# Altium integrated library Analog Devices Operational Amplifiers.IntLib: 2102 symbols (part 55 of 70)
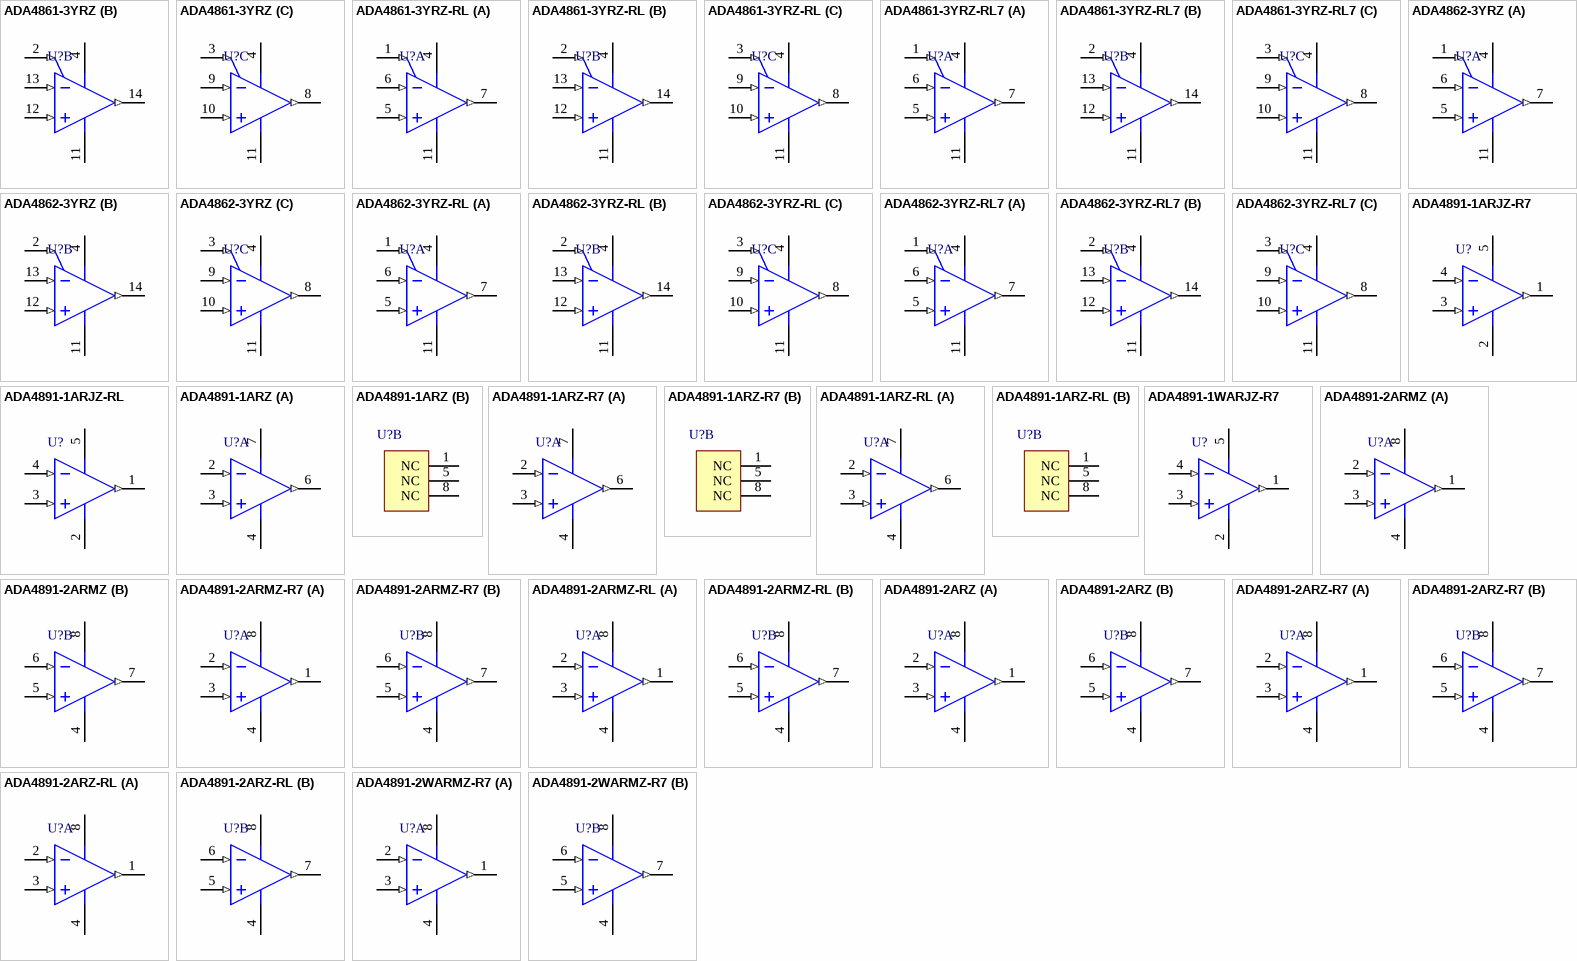
[diagram p168: symbols ADA4861-3YRZ to ADA4891-2WARMZ-R7]

## ADA4862-3YRZ
designator U?
3 Channel Low Power Operational Amplifier, 300 MHz BW, 750 V/us SR, Industrial, 14-pin SOIC (R-14), Tube; Generic Part Number: ADA4862-3; Manufacturer: Analog Devices; PartNumber: ADA4862-3YRZ; Amplifiers Per Package: 3; Input Bias Current: 600nA; Input Offset Voltage: 2mV; Iq/Amp: 6.83mA; Small Signal Bandwidth: 300MHz; V Span Max: 12V; V Span Min: 5V; DatasheetVersion: Rev. A; PackageVersion: 060606-A; PackageReference: R-14; PackageDescription: 14-Pin Standard Small Outline Package, Body 8.65 x 3.9 mm, Pitch 1.27 mm; Supplier 1: Digi-Key; Supplier Part Number 1: ADA4862-3YRZ-ND; Supplier 2: Newark; Supplier Part Number 2: 59K0912; Slew Rate: 750V/us; Mounting Technology: Surface Mount; Code_JEDEC: MS-012-AB; ComponentLink1Description: Manufacturer URL; ComponentLink1URL: http://www.analog.com/en/index.html; ComponentLink2Description: Datasheet; ComponentLink2URL: http://www.analog.com/static/imported-files/data_sheets/ADA4862-3.pdf; ComponentLink3Description: Package Specification; ComponentLink3URL: http://www.analog.com/static/imported-files/packages/PKG_PDF/SOIC_Narrow%20(R)/R_14.pdf
footprint ADI-R-14_N (SOIC, 14-Leads, Body 8.65x3.9mm, Pitch 1.27mm, IPC Medium Density)
footprint ADI-R-14_L (SOIC, 14-Leads, Body 8.65x3.9mm, Pitch 1.27mm, IPC High Density)
footprint ADI-R-14_M (SOIC, 14-Leads, Body 8.65x3.9mm, Pitch 1.27mm, IPC Low Density)
pins on every part: 4 +VS (power), 11 -VS (power)
part A pins: 1 POWER DOWN 1 (in), 5 +IN 1 (in), 6 -IN 1 (in), 7 VOUT 1 (out)
part B pins: 2 POWER DOWN 2 (in), 12 +IN 2 (in), 13 -IN 2 (in), 14 VOUT 2 (out)
part C pins: 3 POWER DOWN 3 (in), 8 VOUT 3 (out), 9 -IN 3 (in), 10 +IN 3 (in)

## ADA4862-3YRZ-RL
designator U?
3 Channel Low Power Operational Amplifier, 300 MHz BW, 750 V/us SR, Industrial, 14-pin SOIC (R-14), Reel; Generic Part Number: ADA4862-3; Manufacturer: Analog Devices; PartNumber: ADA4862-3YRZ-RL; Amplifiers Per Package: 3; Input Bias Current: 600nA; Input Offset Voltage: 2mV; Iq/Amp: 6.83mA; Small Signal Bandwidth: 300MHz; V Span Max: 12V; V Span Min: 5V; DatasheetVersion: Rev. A; PackageVersion: 060606-A; PackageReference: R-14; PackageDescription: 14-Pin Standard Small Outline Package, Body 8.65 x 3.9 mm, Pitch 1.27 mm; Supplier 1: Digi-Key; Supplier Part Number 1: ADA4862-3YRZ-RL-ND; Slew Rate: 750V/us; Mounting Technology: Surface Mount; Code_JEDEC: MS-012-AB; ComponentLink1Description: Manufacturer URL; ComponentLink1URL: http://www.analog.com/en/index.html; ComponentLink2Description: Datasheet; ComponentLink2URL: http://www.analog.com/static/imported-files/data_sheets/ADA4862-3.pdf; ComponentLink3Description: Package Specification; ComponentLink3URL: http://www.analog.com/static/imported-files/packages/PKG_PDF/SOIC_Narrow%20(R)/R_14.pdf
footprint ADI-R-14_N (SOIC, 14-Leads, Body 8.65x3.9mm, Pitch 1.27mm, IPC Medium Density)
footprint ADI-R-14_L (SOIC, 14-Leads, Body 8.65x3.9mm, Pitch 1.27mm, IPC High Density)
footprint ADI-R-14_M (SOIC, 14-Leads, Body 8.65x3.9mm, Pitch 1.27mm, IPC Low Density)
pins on every part: 4 +VS (power), 11 -VS (power)
part A pins: 1 POWER DOWN 1 (in), 5 +IN 1 (in), 6 -IN 1 (in), 7 VOUT 1 (out)
part B pins: 2 POWER DOWN 2 (in), 12 +IN 2 (in), 13 -IN 2 (in), 14 VOUT 2 (out)
part C pins: 3 POWER DOWN 3 (in), 8 VOUT 3 (out), 9 -IN 3 (in), 10 +IN 3 (in)

## ADA4862-3YRZ-RL7
designator U?
3 Channel Low Power Operational Amplifier, 300 MHz BW, 750 V/us SR, Industrial, 14-pin SOIC (R-14), Reel; Generic Part Number: ADA4862-3; Manufacturer: Analog Devices; PartNumber: ADA4862-3YRZ-RL7; Amplifiers Per Package: 3; Input Bias Current: 600nA; Input Offset Voltage: 2mV; Iq/Amp: 6.83mA; Small Signal Bandwidth: 300MHz; V Span Max: 12V; V Span Min: 5V; DatasheetVersion: Rev. A; PackageVersion: 060606-A; PackageReference: R-14; PackageDescription: 14-Pin Standard Small Outline Package, Body 8.65 x 3.9 mm, Pitch 1.27 mm; Supplier 1: Digi-Key; Supplier Part Number 1: ADA4862-3YRZ-RL7-ND; Supplier 2: Newark; Supplier Part Number 2: 59K0914; Slew Rate: 750V/us; Mounting Technology: Surface Mount; Code_JEDEC: MS-012-AB; ComponentLink1Description: Manufacturer URL; ComponentLink1URL: http://www.analog.com/en/index.html; ComponentLink2Description: Datasheet; ComponentLink2URL: http://www.analog.com/static/imported-files/data_sheets/ADA4862-3.pdf; ComponentLink3Description: Package Specification; ComponentLink3URL: http://www.analog.com/static/imported-files/packages/PKG_PDF/SOIC_Narrow%20(R)/R_14.pdf
footprint ADI-R-14_N (SOIC, 14-Leads, Body 8.65x3.9mm, Pitch 1.27mm, IPC Medium Density)
footprint ADI-R-14_L (SOIC, 14-Leads, Body 8.65x3.9mm, Pitch 1.27mm, IPC High Density)
footprint ADI-R-14_M (SOIC, 14-Leads, Body 8.65x3.9mm, Pitch 1.27mm, IPC Low Density)
pins on every part: 4 +VS (power), 11 -VS (power)
part A pins: 1 POWER DOWN 1 (in), 5 +IN 1 (in), 6 -IN 1 (in), 7 VOUT 1 (out)
part B pins: 2 POWER DOWN 2 (in), 12 +IN 2 (in), 13 -IN 2 (in), 14 VOUT 2 (out)
part C pins: 3 POWER DOWN 3 (in), 8 VOUT 3 (out), 9 -IN 3 (in), 10 +IN 3 (in)

## ADA4891-1ARJZ-R7
designator U?
Single Channel Single-Supply Operation Operational Amplifier, 240 MHz BW, 170 V/us SR, Industrial, 5-pin SOT23 (RJ-5), Reel; Generic Part Number: ADA4891-1; Manufacturer: Analog Devices; PartNumber: ADA4891-1ARJZ-R7; Amplifiers Per Package: 1; Input Bias Current: 2pA; Input Offset Voltage: 2.5mV; Iq/Amp: 4.4mA; Small Signal Bandwidth: 240MHz; V Span Max: 5.5V; V Span Min: 2.7V; DatasheetVersion: Rev. D; PackageVersion: 121608-A; PackageReference: RJ-5; PackageDescription: 5-Pin Small Outline Transistor Package, Body 2.9 x 1.6 mm, Pitch 0.95 mm; Supplier 1: Digi-Key; Supplier Part Number 1: ADA4891-1ARJZ-R7TR-ND; Supplier 2: Digi-Key; Supplier Part Number 2: ADA4891-1ARJZ-R7CT-ND; Supplier 3: Digi-Key; Supplier Part Number 3: ADA4891-1ARJZ-R7DKR-ND; Supplier 4: Newark; Supplier Part Number 4: 70R1740; Packing: Reel; Slew Rate: 170V/us; Mounting Technology: Surface Mount; Code_JEDEC: MO-178-AA; ComponentLink1Description: Manufacturer URL; ComponentLink1URL: http://www.analog.com/en/index.html; ComponentLink2Description: Datasheet; ComponentLink2URL: http://www.analog.com/static/imported-files/data_sheets/ADA4891-1_4891-2_4891-3_4891-4.PDF; ComponentLink3Description: Package Specification; ComponentLink3URL: http://www.analog.com/static/imported-files/packages/PKG_PDF/SOT-23(RJ)/RJ_5.pdf
footprint ADI-RJ-5_N (SOT-23, 5-Leads, Body 2.9x1.6mm, Pitch 0.95mm, IPC Medium Density)
footprint ADI-RJ-5_L (SOT-23, 5-Leads, Body 2.9x1.6mm, Pitch 0.95mm, IPC High Density)
footprint ADI-RJ-5_M (SOT-23, 5-Leads, Body 2.9x1.6mm, Pitch 0.95mm, IPC Low Density)
pins: 1 OUT (out), 2 -VS (power), 3 +IN (in), 4 -IN (in), 5 +VS (power)

## ADA4891-1ARJZ-RL
designator U?
Single Channel Single-Supply Operation Operational Amplifier, 240 MHz BW, 170 V/us SR, Industrial, 5-pin SOT23 (RJ-5), Reel; Generic Part Number: ADA4891-1; Manufacturer: Analog Devices; PartNumber: ADA4891-1ARJZ-RL; Amplifiers Per Package: 1; Input Bias Current: 2pA; Input Offset Voltage: 2.5mV; Iq/Amp: 4.4mA; Small Signal Bandwidth: 240MHz; V Span Max: 5.5V; V Span Min: 2.7V; DatasheetVersion: Rev. D; PackageVersion: 121608-A; PackageReference: RJ-5; PackageDescription: 5-Pin Small Outline Transistor Package, Body 2.9 x 1.6 mm, Pitch 0.95 mm; Supplier 1: Digi-Key; Supplier Part Number 1: ADA4891-1ARJZ-RL-ND; Packing: Reel; Slew Rate: 170V/us; Mounting Technology: Surface Mount; Code_JEDEC: MO-178-AA; ComponentLink1Description: Manufacturer URL; ComponentLink1URL: http://www.analog.com/en/index.html; ComponentLink2Description: Datasheet; ComponentLink2URL: http://www.analog.com/static/imported-files/data_sheets/ADA4891-1_4891-2_4891-3_4891-4.PDF; ComponentLink3Description: Package Specification; ComponentLink3URL: http://www.analog.com/static/imported-files/packages/PKG_PDF/SOT-23(RJ)/RJ_5.pdf
footprint ADI-RJ-5_N (SOT-23, 5-Leads, Body 2.9x1.6mm, Pitch 0.95mm, IPC Medium Density)
footprint ADI-RJ-5_L (SOT-23, 5-Leads, Body 2.9x1.6mm, Pitch 0.95mm, IPC High Density)
footprint ADI-RJ-5_M (SOT-23, 5-Leads, Body 2.9x1.6mm, Pitch 0.95mm, IPC Low Density)
pins: 1 OUT (out), 2 -VS (power), 3 +IN (in), 4 -IN (in), 5 +VS (power)

## ADA4891-1ARZ
designator U?
Single Channel Single-Supply Operation Operational Amplifier, 240 MHz BW, 170 V/us SR, Industrial, 8-pin SOIC (R-8), Tube; Generic Part Number: ADA4891-1; Manufacturer: Analog Devices; PartNumber: ADA4891-1ARZ; Amplifiers Per Package: 1; Input Bias Current: 2pA; Input Offset Voltage: 2.5mV; Iq/Amp: 4.4mA; Small Signal Bandwidth: 240MHz; V Span Max: 5.5V; V Span Min: 2.7V; DatasheetVersion: Rev. D; PackageVersion: 060506-A; PackageReference: R-8; PackageDescription: 8-Pin Standard Small Outline Package, Body 3.9 x 4.9 mm, Pitch 1.27 mm; Supplier 1: Digi-Key; Supplier Part Number 1: ADA4891-1ARZ-ND; Supplier 2: Farnell; Supplier Part Number 2: 1827266; Supplier 3: Newark; Supplier Part Number 3: 81R1628; Supplier 4: Newark; Supplier Part Number 4: 70R1741; Packing: Tube; Slew Rate: 170V/us; Mounting Technology: Surface Mount; Code_JEDEC: MS-012-AA; ComponentLink1Description: Manufacturer URL; ComponentLink1URL: http://www.analog.com/en/index.html; ComponentLink2Description: Datasheet; ComponentLink2URL: http://www.analog.com/static/imported-files/data_sheets/ADA4891-1_4891-2_4891-3_4891-4.PDF; ComponentLink3Description: Package Specification; ComponentLink3URL: http://www.analog.com/static/imported-files/packages/PKG_PDF/SOIC_Narrow%20(R)/R_8.pdf
footprint ADI-R-8_N (SOIC, 8-Leads, Body 4.9x3.9mm, Pitch 1.27mm, IPC Medium Density)
footprint ADI-R-8_L (SOIC, 8-Leads, Body 4.9x3.9mm, Pitch 1.27mm, IPC High Density)
footprint ADI-R-8_M (SOIC, 8-Leads, Body 4.9x3.9mm, Pitch 1.27mm, IPC Low Density)
part A pins: 2 -IN (in), 3 +IN (in), 4 -VS (power), 6 OUT (out), 7 +VS (power)
part B pins: 1 NC, 5 NC, 8 NC

## ADA4891-1ARZ-R7
designator U?
Single Channel Single-Supply Operation Operational Amplifier, 240 MHz BW, 170 V/us SR, Industrial, 8-pin SOIC (R-8), Reel; Generic Part Number: ADA4891-1; Manufacturer: Analog Devices; PartNumber: ADA4891-1ARZ-R7; Amplifiers Per Package: 1; Input Bias Current: 2pA; Input Offset Voltage: 2.5mV; Iq/Amp: 4.4mA; Small Signal Bandwidth: 240MHz; V Span Max: 5.5V; V Span Min: 2.7V; DatasheetVersion: Rev. D; PackageVersion: 060506-A; PackageReference: R-8; PackageDescription: 8-Pin Standard Small Outline Package, Body 3.9 x 4.9 mm, Pitch 1.27 mm; Supplier 1: Digi-Key; Supplier Part Number 1: ADA4891-1ARZ-R7-ND; Packing: Reel; Slew Rate: 170V/us; Mounting Technology: Surface Mount; Code_JEDEC: MS-012-AA; ComponentLink1Description: Manufacturer URL; ComponentLink1URL: http://www.analog.com/en/index.html; ComponentLink2Description: Datasheet; ComponentLink2URL: http://www.analog.com/static/imported-files/data_sheets/ADA4891-1_4891-2_4891-3_4891-4.PDF; ComponentLink3Description: Package Specification; ComponentLink3URL: http://www.analog.com/static/imported-files/packages/PKG_PDF/SOIC_Narrow%20(R)/R_8.pdf
footprint ADI-R-8_N (SOIC, 8-Leads, Body 4.9x3.9mm, Pitch 1.27mm, IPC Medium Density)
footprint ADI-R-8_L (SOIC, 8-Leads, Body 4.9x3.9mm, Pitch 1.27mm, IPC High Density)
footprint ADI-R-8_M (SOIC, 8-Leads, Body 4.9x3.9mm, Pitch 1.27mm, IPC Low Density)
part A pins: 2 -IN (in), 3 +IN (in), 4 -VS (power), 6 OUT (out), 7 +VS (power)
part B pins: 1 NC, 5 NC, 8 NC

## ADA4891-1ARZ-RL
designator U?
Single Channel Single-Supply Operation Operational Amplifier, 240 MHz BW, 170 V/us SR, Industrial, 8-pin SOIC (R-8), Reel; Generic Part Number: ADA4891-1; Manufacturer: Analog Devices; PartNumber: ADA4891-1ARZ-RL; Amplifiers Per Package: 1; Input Bias Current: 2pA; Input Offset Voltage: 2.5mV; Iq/Amp: 4.4mA; Small Signal Bandwidth: 240MHz; V Span Max: 5.5V; V Span Min: 2.7V; DatasheetVersion: Rev. D; PackageVersion: 060506-A; PackageReference: R-8; PackageDescription: 8-Pin Standard Small Outline Package, Body 3.9 x 4.9 mm, Pitch 1.27 mm; Supplier 1: Digi-Key; Supplier Part Number 1: ADA4891-1ARZ-RL-ND; Packing: Reel; Slew Rate: 170V/us; Mounting Technology: Surface Mount; Code_JEDEC: MS-012-AA; ComponentLink1Description: Manufacturer URL; ComponentLink1URL: http://www.analog.com/en/index.html; ComponentLink2Description: Datasheet; ComponentLink2URL: http://www.analog.com/static/imported-files/data_sheets/ADA4891-1_4891-2_4891-3_4891-4.PDF; ComponentLink3Description: Package Specification; ComponentLink3URL: http://www.analog.com/static/imported-files/packages/PKG_PDF/SOIC_Narrow%20(R)/R_8.pdf
footprint ADI-R-8_N (SOIC, 8-Leads, Body 4.9x3.9mm, Pitch 1.27mm, IPC Medium Density)
footprint ADI-R-8_L (SOIC, 8-Leads, Body 4.9x3.9mm, Pitch 1.27mm, IPC High Density)
footprint ADI-R-8_M (SOIC, 8-Leads, Body 4.9x3.9mm, Pitch 1.27mm, IPC Low Density)
part A pins: 2 -IN (in), 3 +IN (in), 4 -VS (power), 6 OUT (out), 7 +VS (power)
part B pins: 1 NC, 5 NC, 8 NC

## ADA4891-1WARJZ-R7
designator U?
Single Channel Single-Supply Operation Operational Amplifier, 240 MHz BW, 170 V/us SR, Industrial, 5-pin SOT23 (RJ-5), Reel; Generic Part Number: ADA4891-1; Manufacturer: Analog Devices; PartNumber: ADA4891-1WARJZ-R7; Amplifiers Per Package: 1; Input Bias Current: 2pA; Input Offset Voltage: 2.5mV; Iq/Amp: 4.4mA; Small Signal Bandwidth: 240MHz; V Span Max: 5.5V; V Span Min: 2.7V; DatasheetVersion: Rev. D; PackageVersion: 121608-A; PackageReference: RJ-5; PackageDescription: 5-Pin Small Outline Transistor Package, Body 2.9 x 1.6 mm, Pitch 0.95 mm; Packing: Reel; Slew Rate: 170V/us; Mounting Technology: Surface Mount; Code_JEDEC: MO-178-AA; ComponentLink1Description: Manufacturer URL; ComponentLink1URL: http://www.analog.com/en/index.html; ComponentLink2Description: Datasheet; ComponentLink2URL: http://www.analog.com/static/imported-files/data_sheets/ADA4891-1_4891-2_4891-3_4891-4.PDF; ComponentLink3Description: Package Specification; ComponentLink3URL: http://www.analog.com/static/imported-files/packages/PKG_PDF/SOT-23(RJ)/RJ_5.pdf
footprint ADI-RJ-5_N (SOT-23, 5-Leads, Body 2.9x1.6mm, Pitch 0.95mm, IPC Medium Density)
footprint ADI-RJ-5_L (SOT-23, 5-Leads, Body 2.9x1.6mm, Pitch 0.95mm, IPC High Density)
footprint ADI-RJ-5_M (SOT-23, 5-Leads, Body 2.9x1.6mm, Pitch 0.95mm, IPC Low Density)
pins: 1 OUT (out), 2 -VS (power), 3 +IN (in), 4 -IN (in), 5 +VS (power)

## ADA4891-2ARMZ
designator U?
Double Channel Single-Supply Operation Operational Amplifier, 220 MHz BW, 170 V/us SR, Industrial, 8-pin SOP (RM-8), Tube; Generic Part Number: ADA4891-2; Manufacturer: Analog Devices; PartNumber: ADA4891-2ARMZ; Amplifiers Per Package: 2; Input Bias Current: 2pA; Input Offset Voltage: 2.5mV; Iq/Amp: 4.4mA; Small Signal Bandwidth: 220MHz; V Span Max: 5.5V; V Span Min: 2.7V; DatasheetVersion: Rev. D; PackageReference: RM-8; PackageDescription: 8-Pin Mini Small Outline Package, Body 3 x 3 mm, Pitch 0.65 mm; Supplier 1: Digi-Key; Supplier Part Number 1: ADA4891-2ARMZ-ND; Supplier 2: Farnell; Supplier Part Number 2: 1827267; Supplier 3: Newark; Supplier Part Number 3: 81R1629; Packing: Tube; Slew Rate: 170V/us; Mounting Technology: Surface Mount; Code_JEDEC: MO-187-AA; ComponentLink1Description: Manufacturer URL; ComponentLink1URL: http://www.analog.com/en/index.html; ComponentLink2Description: Datasheet; ComponentLink2URL: http://www.analog.com/static/imported-files/data_sheets/ADA4891-1_4891-2_4891-3_4891-4.PDF; ComponentLink3Description: Package Specification; ComponentLink3URL: http://www.analog.com/static/imported-files/packages/PKG_PDF/MSOP%28RM%29/RM_8.pdf
footprint ADI-RM-8_N (SOP, 8-Leads, Body 3x3mm, Pitch 0.65mm, IPC Medium Density)
footprint ADI-RM-8_L (SOP, 8-Leads, Body 3x3mm, Pitch 0.65mm, IPC High Density)
footprint ADI-RM-8_M (SOP, 8-Leads, Body 3x3mm, Pitch 0.65mm, IPC Low Density)
pins on every part: 4 -VS (power), 8 +VS (power)
part A pins: 1 OUT 1 (out), 2 -IN 1 (in), 3 +IN 1 (in)
part B pins: 5 +IN 2 (in), 6 -IN 2 (in), 7 OUT 2 (out)

## ADA4891-2ARMZ-R7
designator U?
Double Channel Single-Supply Operation Operational Amplifier, 220 MHz BW, 170 V/us SR, Industrial, 8-pin SOP (RM-8), Reel; Generic Part Number: ADA4891-2; Manufacturer: Analog Devices; PartNumber: ADA4891-2ARMZ-R7; Amplifiers Per Package: 2; Input Bias Current: 2pA; Input Offset Voltage: 2.5mV; Iq/Amp: 4.4mA; Small Signal Bandwidth: 220MHz; V Span Max: 5.5V; V Span Min: 2.7V; DatasheetVersion: Rev. D; PackageReference: RM-8; PackageDescription: 8-Pin Mini Small Outline Package, Body 3 x 3 mm, Pitch 0.65 mm; Supplier 1: Digi-Key; Supplier Part Number 1: ADA4891-2ARMZ-R7-ND; Packing: Reel; Slew Rate: 170V/us; Mounting Technology: Surface Mount; Code_JEDEC: MO-187-AA; ComponentLink1Description: Manufacturer URL; ComponentLink1URL: http://www.analog.com/en/index.html; ComponentLink2Description: Datasheet; ComponentLink2URL: http://www.analog.com/static/imported-files/data_sheets/ADA4891-1_4891-2_4891-3_4891-4.PDF; ComponentLink3Description: Package Specification; ComponentLink3URL: http://www.analog.com/static/imported-files/packages/PKG_PDF/MSOP%28RM%29/RM_8.pdf
footprint ADI-RM-8_N (SOP, 8-Leads, Body 3x3mm, Pitch 0.65mm, IPC Medium Density)
footprint ADI-RM-8_L (SOP, 8-Leads, Body 3x3mm, Pitch 0.65mm, IPC High Density)
footprint ADI-RM-8_M (SOP, 8-Leads, Body 3x3mm, Pitch 0.65mm, IPC Low Density)
pins on every part: 4 -VS (power), 8 +VS (power)
part A pins: 1 OUT 1 (out), 2 -IN 1 (in), 3 +IN 1 (in)
part B pins: 5 +IN 2 (in), 6 -IN 2 (in), 7 OUT 2 (out)

## ADA4891-2ARMZ-RL
designator U?
Double Channel Single-Supply Operation Operational Amplifier, 220 MHz BW, 170 V/us SR, Industrial, 8-pin SOP (RM-8), Reel; Generic Part Number: ADA4891-1; Manufacturer: Analog Devices; PartNumber: ADA4891-2ARMZ-RL; Amplifiers Per Package: 2; Input Bias Current: 2pA; Input Offset Voltage: 2.5mV; Iq/Amp: 4.4mA; Small Signal Bandwidth: 220MHz; V Span Max: 5.5V; V Span Min: 2.7V; DatasheetVersion: Rev. D; PackageReference: RM-8; PackageDescription: 8-Pin Mini Small Outline Package, Body 3 x 3 mm, Pitch 0.65 mm; Supplier 1: Digi-Key; Supplier Part Number 1: ADA4891-2ARMZ-RL-ND; Packing: Reel; Slew Rate: 170V/us; Mounting Technology: Surface Mount; Code_JEDEC: MO-187-AA; ComponentLink1Description: Manufacturer URL; ComponentLink1URL: http://www.analog.com/en/index.html; ComponentLink2Description: Datasheet; ComponentLink2URL: http://www.analog.com/static/imported-files/data_sheets/ADA4891-1_4891-2_4891-3_4891-4.PDF; ComponentLink3Description: Package Specification; ComponentLink3URL: http://www.analog.com/static/imported-files/packages/PKG_PDF/MSOP%28RM%29/RM_8.pdf
footprint ADI-RM-8_N (SOP, 8-Leads, Body 3x3mm, Pitch 0.65mm, IPC Medium Density)
footprint ADI-RM-8_L (SOP, 8-Leads, Body 3x3mm, Pitch 0.65mm, IPC High Density)
footprint ADI-RM-8_M (SOP, 8-Leads, Body 3x3mm, Pitch 0.65mm, IPC Low Density)
pins on every part: 4 -VS (power), 8 +VS (power)
part A pins: 1 OUT 1 (out), 2 -IN 1 (in), 3 +IN 1 (in)
part B pins: 5 +IN 2 (in), 6 -IN 2 (in), 7 OUT 2 (out)

## ADA4891-2ARZ
designator U?
Double Channel Single-Supply Operation Operational Amplifier, 220 MHz BW, 170 V/us SR, Industrial, 8-pin SOIC (R-8), Tube; Generic Part Number: ADA4891-2; Manufacturer: Analog Devices; PartNumber: ADA4891-2ARZ; Amplifiers Per Package: 2; Input Bias Current: 2pA; Input Offset Voltage: 2.5mV; Iq/Amp: 4.4mA; Small Signal Bandwidth: 220MHz; V Span Max: 5.5V; V Span Min: 2.7V; DatasheetVersion: Rev. D; PackageVersion: 060506-A; PackageReference: R-8; PackageDescription: 8-Pin Standard Small Outline Package, Body 3.9 x 4.9 mm, Pitch 1.27 mm; Supplier 1: Digi-Key; Supplier Part Number 1: ADA4891-2ARZ-ND; Supplier 2: Farnell; Supplier Part Number 2: 2094199; Supplier 3: Newark; Supplier Part Number 3: 70R1747; Packing: Tube; Slew Rate: 170V/us; Mounting Technology: Surface Mount; Code_JEDEC: MS-012-AA; ComponentLink1Description: Manufacturer URL; ComponentLink1URL: http://www.analog.com/en/index.html; ComponentLink2Description: Datasheet; ComponentLink2URL: http://www.analog.com/static/imported-files/data_sheets/ADA4891-1_4891-2_4891-3_4891-4.PDF; ComponentLink3Description: Package Specification; ComponentLink3URL: http://www.analog.com/static/imported-files/packages/PKG_PDF/SOIC_Narrow%20(R)/R_8.pdf
footprint ADI-R-8_N (SOIC, 8-Leads, Body 4.9x3.9mm, Pitch 1.27mm, IPC Medium Density)
footprint ADI-R-8_L (SOIC, 8-Leads, Body 4.9x3.9mm, Pitch 1.27mm, IPC High Density)
footprint ADI-R-8_M (SOIC, 8-Leads, Body 4.9x3.9mm, Pitch 1.27mm, IPC Low Density)
pins on every part: 4 -VS (power), 8 +VS (power)
part A pins: 1 OUT 1 (out), 2 -IN 1 (in), 3 +IN 1 (in)
part B pins: 5 +IN 2 (in), 6 -IN 2 (in), 7 OUT 2 (out)

## ADA4891-2ARZ-R7
designator U?
Double Channel Single-Supply Operation Operational Amplifier, 220 MHz BW, 170 V/us SR, Industrial, 8-pin SOIC (R-8), Reel; Generic Part Number: ADA4891-2; Manufacturer: Analog Devices; PartNumber: ADA4891-2ARZ-R7; Amplifiers Per Package: 2; Input Bias Current: 2pA; Input Offset Voltage: 2.5mV; Iq/Amp: 4.4mA; Small Signal Bandwidth: 220MHz; V Span Max: 5.5V; V Span Min: 2.7V; DatasheetVersion: Rev. D; PackageVersion: 060506-A; PackageReference: R-8; PackageDescription: 8-Pin Standard Small Outline Package, Body 3.9 x 4.9 mm, Pitch 1.27 mm; Supplier 1: Digi-Key; Supplier Part Number 1: ADA4891-2ARZ-R7TR-ND; Supplier 2: Digi-Key; Supplier Part Number 2: ADA4891-2ARZ-R7CT-ND; Supplier 3: Digi-Key; Supplier Part Number 3: ADA4891-2ARZ-R7DKR-ND; Packing: Reel; Slew Rate: 170V/us; Mounting Technology: Surface Mount; Code_JEDEC: MS-012-AA; ComponentLink1Description: Manufacturer URL; ComponentLink1URL: http://www.analog.com/en/index.html; ComponentLink2Description: Datasheet; ComponentLink2URL: http://www.analog.com/static/imported-files/data_sheets/ADA4891-1_4891-2_4891-3_4891-4.PDF; ComponentLink3Description: Package Specification; ComponentLink3URL: http://www.analog.com/static/imported-files/packages/PKG_PDF/SOIC_Narrow%20(R)/R_8.pdf
footprint ADI-R-8_N (SOIC, 8-Leads, Body 4.9x3.9mm, Pitch 1.27mm, IPC Medium Density)
footprint ADI-R-8_L (SOIC, 8-Leads, Body 4.9x3.9mm, Pitch 1.27mm, IPC High Density)
footprint ADI-R-8_M (SOIC, 8-Leads, Body 4.9x3.9mm, Pitch 1.27mm, IPC Low Density)
pins on every part: 4 -VS (power), 8 +VS (power)
part A pins: 1 OUT 1 (out), 2 -IN 1 (in), 3 +IN 1 (in)
part B pins: 5 +IN 2 (in), 6 -IN 2 (in), 7 OUT 2 (out)

## ADA4891-2ARZ-RL
designator U?
Double Channel Single-Supply Operation Operational Amplifier, 220 MHz BW, 170 V/us SR, Industrial, 8-pin SOIC (R-8), Reel; Generic Part Number: ADA4891-2; Manufacturer: Analog Devices; PartNumber: ADA4891-2ARZ-RL; Amplifiers Per Package: 2; Input Bias Current: 2pA; Input Offset Voltage: 2.5mV; Iq/Amp: 4.4mA; Small Signal Bandwidth: 220MHz; V Span Max: 5.5V; V Span Min: 2.7V; DatasheetVersion: Rev. D; PackageVersion: 060506-A; PackageReference: R-8; PackageDescription: 8-Pin Standard Small Outline Package, Body 3.9 x 4.9 mm, Pitch 1.27 mm; Supplier 1: Digi-Key; Supplier Part Number 1: ADA4891-2ARZ-RL-ND; Packing: Reel; Slew Rate: 170V/us; Mounting Technology: Surface Mount; Code_JEDEC: MS-012-AA; ComponentLink1Description: Manufacturer URL; ComponentLink1URL: http://www.analog.com/en/index.html; ComponentLink2Description: Datasheet; ComponentLink2URL: http://www.analog.com/static/imported-files/data_sheets/ADA4891-1_4891-2_4891-3_4891-4.PDF; ComponentLink3Description: Package Specification; ComponentLink3URL: http://www.analog.com/static/imported-files/packages/PKG_PDF/SOIC_Narrow%20(R)/R_8.pdf
footprint ADI-R-8_N (SOIC, 8-Leads, Body 4.9x3.9mm, Pitch 1.27mm, IPC Medium Density)
footprint ADI-R-8_L (SOIC, 8-Leads, Body 4.9x3.9mm, Pitch 1.27mm, IPC High Density)
footprint ADI-R-8_M (SOIC, 8-Leads, Body 4.9x3.9mm, Pitch 1.27mm, IPC Low Density)
pins on every part: 4 -VS (power), 8 +VS (power)
part A pins: 1 OUT 1 (out), 2 -IN 1 (in), 3 +IN 1 (in)
part B pins: 5 +IN 2 (in), 6 -IN 2 (in), 7 OUT 2 (out)

## ADA4891-2WARMZ-R7
designator U?
Double Channel Single-Supply Operation Operational Amplifier, 220 MHz BW, 170 V/us SR, Industrial, 8-pin SOP (RM-8), Reel; Generic Part Number: ADA4891-2; Manufacturer: Analog Devices; PartNumber: ADA4891-2WARMZ-R7; Amplifiers Per Package: 2; Input Bias Current: 2pA; Input Offset Voltage: 2.5mV; Iq/Amp: 4.4mA; Small Signal Bandwidth: 220MHz; V Span Max: 5.5V; V Span Min: 2.7V; DatasheetVersion: Rev. D; PackageReference: RM-8; PackageDescription: 8-Pin Mini Small Outline Package, Body 3 x 3 mm, Pitch 0.65 mm; Packing: Reel; Slew Rate: 170V/us; Mounting Technology: Surface Mount; Code_JEDEC: MO-187-AA; ComponentLink1Description: Manufacturer URL; ComponentLink1URL: http://www.analog.com/en/index.html; ComponentLink2Description: Datasheet; ComponentLink2URL: http://www.analog.com/static/imported-files/data_sheets/ADA4891-1_4891-2_4891-3_4891-4.PDF; ComponentLink3Description: Package Specification; ComponentLink3URL: http://www.analog.com/static/imported-files/packages/PKG_PDF/MSOP%28RM%29/RM_8.pdf
footprint ADI-RM-8_N (SOP, 8-Leads, Body 3x3mm, Pitch 0.65mm, IPC Medium Density)
footprint ADI-RM-8_L (SOP, 8-Leads, Body 3x3mm, Pitch 0.65mm, IPC High Density)
footprint ADI-RM-8_M (SOP, 8-Leads, Body 3x3mm, Pitch 0.65mm, IPC Low Density)
pins on every part: 4 -VS (power), 8 +VS (power)
part A pins: 1 OUT 1 (out), 2 -IN 1 (in), 3 +IN 1 (in)
part B pins: 5 +IN 2 (in), 6 -IN 2 (in), 7 OUT 2 (out)

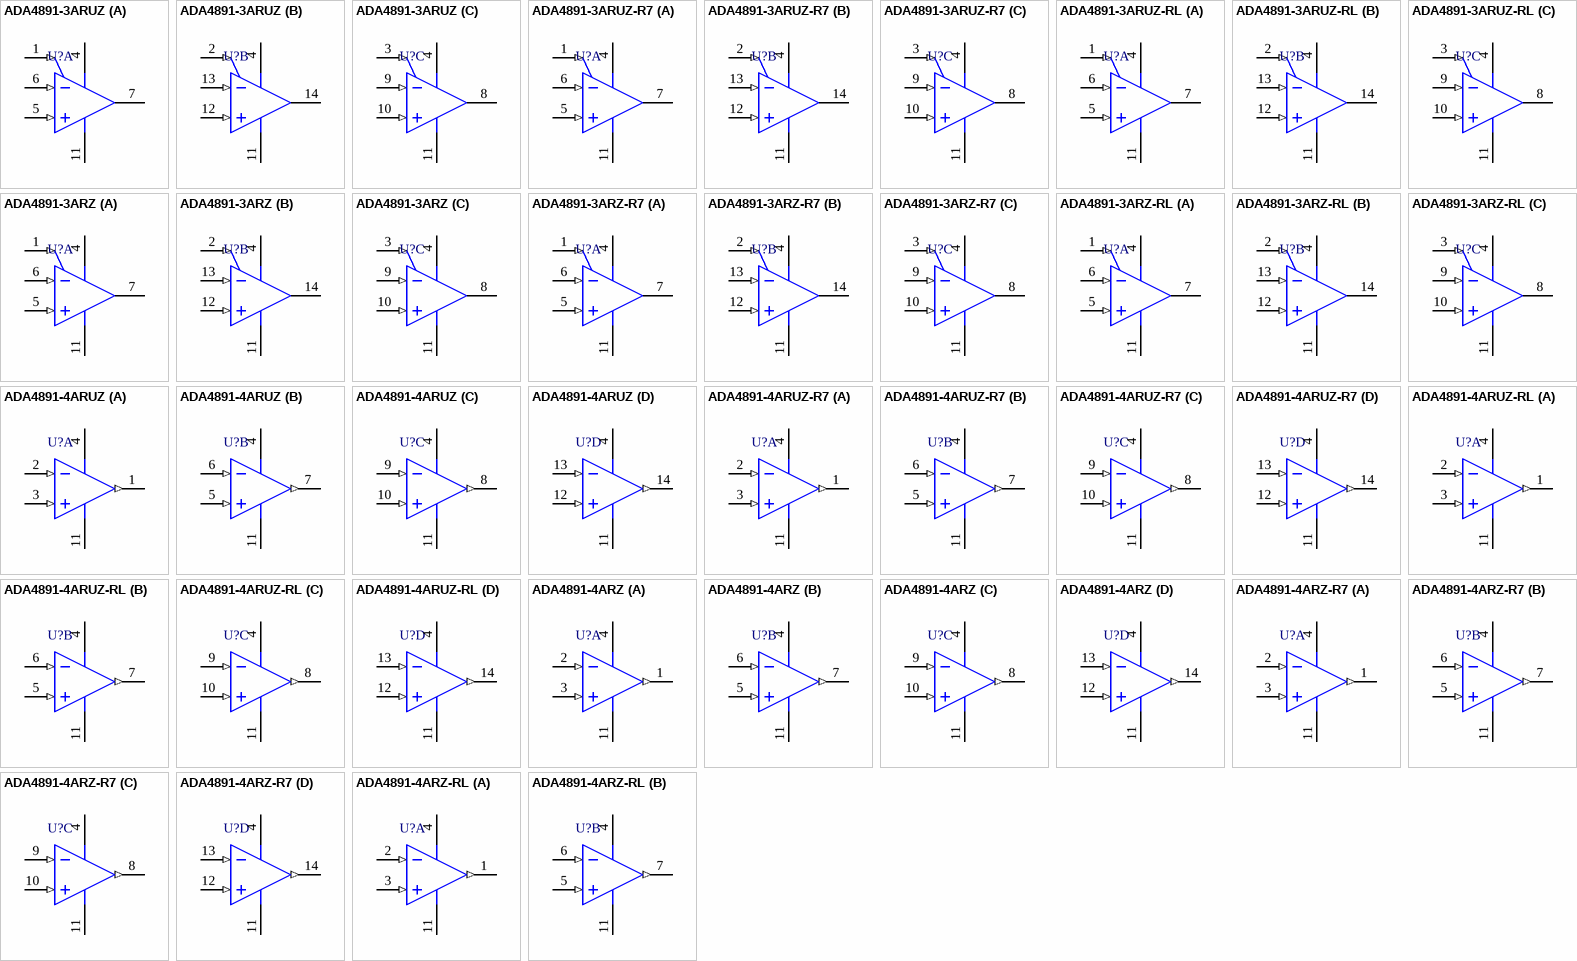
[diagram p87: symbols ADA4891-3ARUZ to ADA4891-4ARZ-RL]

## ADA4891-3ARUZ
designator U?
3 Channel Single-Supply Operation Operational Amplifier, 220 MHz BW, 170 V/us SR, Industrial, 14-pin SOP (RU-14), Tube; Generic Part Number: ADA4891-3; Manufacturer: Analog Devices; PartNumber: ADA4891-3ARUZ; Amplifiers Per Package: 3; Input Bias Current: 2pA; Input Offset Voltage: 2.5mV; Iq/Amp: 4.4mA; Small Signal Bandwidth: 220MHz; V Span Max: 5.5V; V Span Min: 2.7V; DatasheetVersion: Rev. D; PackageReference: RU-14; PackageDescription: 14-Pin Thin Shrink Small Outline Package, Body 5 x 4.4 mm, Pitch 0.65 mm; Supplier 1: Digi-Key; Supplier Part Number 1: ADA4891-3ARUZ-ND; Supplier 2: Newark; Supplier Part Number 2: 85R6304; Packing: Tube; Slew Rate: 170V/us; Mounting Technology: Surface Mount; Code_JEDEC: MO-153AB-1; ComponentLink1Description: Manufacturer URL; ComponentLink1URL: http://www.analog.com/en/index.html; ComponentLink2Description: Datasheet; ComponentLink2URL: http://www.analog.com/static/imported-files/data_sheets/ADA4891-1_4891-2_4891-3_4891-4.PDF; ComponentLink3Description: Package Specification; ComponentLink3URL: http://www.analog.com/static/imported-files/packages/36057385283879153717235186773RU14.pdf
footprint ADI-RU-14_N (SOP, 14-Leads, Body 5x4.4mm, Pitch 0.65mm, IPC Medium Density)
footprint ADI-RU-14_L (SOP, 14-Leads, Body 5x4.4mm, Pitch 0.65mm, IPC High Density)
footprint ADI-RU-14_M (SOP, 14-Leads, Body 5x4.4mm, Pitch 0.65mm, IPC Low Density)
pins on every part: 4 +VS (power), 11 -VS (power)
part A pins: 1 ~{PD1} (in), 5 +IN 1 (in), 6 -IN 1 (in), 7 OUT 1 (hiz)
part B pins: 2 ~{PD2} (in), 12 +IN 2 (in), 13 -IN 2 (in), 14 OUT 2 (hiz)
part C pins: 3 ~{PD3} (in), 8 OUT 3 (hiz), 9 -IN 3 (in), 10 +IN 3 (in)

## ADA4891-3ARUZ-R7
designator U?
3 Channel Single-Supply Operation Operational Amplifier, 220 MHz BW, 170 V/us SR, Industrial, 14-pin SOP (RU-14), Reel; Generic Part Number: ADA4891-3; Manufacturer: Analog Devices; PartNumber: ADA4891-3ARUZ-R7; Amplifiers Per Package: 3; Input Bias Current: 2pA; Input Offset Voltage: 2.5mV; Iq/Amp: 4.4mA; Small Signal Bandwidth: 220MHz; V Span Max: 5.5V; V Span Min: 2.7V; DatasheetVersion: Rev. D; PackageReference: RU-14; PackageDescription: 14-Pin Thin Shrink Small Outline Package, Body 5 x 4.4 mm, Pitch 0.65 mm; Supplier 1: Digi-Key; Supplier Part Number 1: ADA4891-3ARUZ-R7-ND; Packing: Reel; Slew Rate: 170V/us; Mounting Technology: Surface Mount; Code_JEDEC: MO-153AB-1; ComponentLink1Description: Manufacturer URL; ComponentLink1URL: http://www.analog.com/en/index.html; ComponentLink2Description: Datasheet; ComponentLink2URL: http://www.analog.com/static/imported-files/data_sheets/ADA4891-1_4891-2_4891-3_4891-4.PDF; ComponentLink3Description: Package Specification; ComponentLink3URL: http://www.analog.com/static/imported-files/packages/36057385283879153717235186773RU14.pdf
footprint ADI-RU-14_N (SOP, 14-Leads, Body 5x4.4mm, Pitch 0.65mm, IPC Medium Density)
footprint ADI-RU-14_L (SOP, 14-Leads, Body 5x4.4mm, Pitch 0.65mm, IPC High Density)
footprint ADI-RU-14_M (SOP, 14-Leads, Body 5x4.4mm, Pitch 0.65mm, IPC Low Density)
pins on every part: 4 +VS (power), 11 -VS (power)
part A pins: 1 ~{PD1} (in), 5 +IN 1 (in), 6 -IN 1 (in), 7 OUT 1 (hiz)
part B pins: 2 ~{PD2} (in), 12 +IN 2 (in), 13 -IN 2 (in), 14 OUT 2 (hiz)
part C pins: 3 ~{PD3} (in), 8 OUT 3 (hiz), 9 -IN 3 (in), 10 +IN 3 (in)

## ADA4891-3ARUZ-RL
designator U?
3 Channel Single-Supply Operation Operational Amplifier, 220 MHz BW, 170 V/us SR, Industrial, 14-pin SOP (RU-14), Reel; Generic Part Number: ADA4891-3; Manufacturer: Analog Devices; PartNumber: ADA4891-3ARUZ-RL; Amplifiers Per Package: 3; Input Bias Current: 2pA; Input Offset Voltage: 2.5mV; Iq/Amp: 4.4mA; Small Signal Bandwidth: 220MHz; V Span Max: 5.5V; V Span Min: 2.7V; DatasheetVersion: Rev. D; PackageReference: RU-14; PackageDescription: 14-Pin Thin Shrink Small Outline Package, Body 5 x 4.4 mm, Pitch 0.65 mm; Supplier 1: Digi-Key; Supplier Part Number 1: ADA4891-3ARUZ-RL-ND; Packing: Reel; Slew Rate: 170V/us; Mounting Technology: Surface Mount; Code_JEDEC: MO-153AB-1; ComponentLink1Description: Manufacturer URL; ComponentLink1URL: http://www.analog.com/en/index.html; ComponentLink2Description: Datasheet; ComponentLink2URL: http://www.analog.com/static/imported-files/data_sheets/ADA4891-1_4891-2_4891-3_4891-4.PDF; ComponentLink3Description: Package Specification; ComponentLink3URL: http://www.analog.com/static/imported-files/packages/36057385283879153717235186773RU14.pdf
footprint ADI-RU-14_N (SOP, 14-Leads, Body 5x4.4mm, Pitch 0.65mm, IPC Medium Density)
footprint ADI-RU-14_L (SOP, 14-Leads, Body 5x4.4mm, Pitch 0.65mm, IPC High Density)
footprint ADI-RU-14_M (SOP, 14-Leads, Body 5x4.4mm, Pitch 0.65mm, IPC Low Density)
pins on every part: 4 +VS (power), 11 -VS (power)
part A pins: 1 ~{PD1} (in), 5 +IN 1 (in), 6 -IN 1 (in), 7 OUT 1 (hiz)
part B pins: 2 ~{PD2} (in), 12 +IN 2 (in), 13 -IN 2 (in), 14 OUT 2 (hiz)
part C pins: 3 ~{PD3} (in), 8 OUT 3 (hiz), 9 -IN 3 (in), 10 +IN 3 (in)

## ADA4891-3ARZ
designator U?
3 Channel Single-Supply Operation Operational Amplifier, 220 MHz BW, 170 V/us SR, Industrial, 14-pin SOIC (R-14), Tube; Generic Part Number: ADA4891-3; Manufacturer: Analog Devices; PartNumber: ADA4891-3ARZ; Amplifiers Per Package: 3; Input Bias Current: 2pA; Input Offset Voltage: 2.5mV; Iq/Amp: 4.4mA; Small Signal Bandwidth: 220MHz; V Span Max: 5.5V; V Span Min: 2.7V; DatasheetVersion: Rev. D; PackageVersion: 060606-A; PackageReference: R-14; PackageDescription: 14-Pin Standard Small Outline Package, Body 8.65 x 3.9 mm, Pitch 1.27 mm; Packing: Tube; Slew Rate: 170V/us; Mounting Technology: Surface Mount; Code_JEDEC: MS-012-AB; ComponentLink1Description: Manufacturer URL; ComponentLink1URL: http://www.analog.com/en/index.html; ComponentLink2Description: Datasheet; ComponentLink2URL: http://www.analog.com/static/imported-files/data_sheets/ADA4891-1_4891-2_4891-3_4891-4.PDF; ComponentLink3Description: Package Specification; ComponentLink3URL: http://www.analog.com/static/imported-files/packages/PKG_PDF/SOIC_Narrow%20(R)/R_14.pdf
footprint ADI-R-14_N (SOIC, 14-Leads, Body 8.65x3.9mm, Pitch 1.27mm, IPC Medium Density)
footprint ADI-R-14_L (SOIC, 14-Leads, Body 8.65x3.9mm, Pitch 1.27mm, IPC High Density)
footprint ADI-R-14_M (SOIC, 14-Leads, Body 8.65x3.9mm, Pitch 1.27mm, IPC Low Density)
pins on every part: 4 +VS (power), 11 -VS (power)
part A pins: 1 ~{PD1} (in), 5 +IN 1 (in), 6 -IN 1 (in), 7 OUT 1 (hiz)
part B pins: 2 ~{PD2} (in), 12 +IN 2 (in), 13 -IN 2 (in), 14 OUT 2 (hiz)
part C pins: 3 ~{PD3} (in), 8 OUT 3 (hiz), 9 -IN 3 (in), 10 +IN 3 (in)

## ADA4891-3ARZ-R7
designator U?
3 Channel Single-Supply Operation Operational Amplifier, 220 MHz BW, 170 V/us SR, Industrial, 14-pin SOIC (R-14), Reel; Generic Part Number: ADA4891-3; Manufacturer: Analog Devices; PartNumber: ADA4891-3ARZ-R7; Amplifiers Per Package: 3; Input Bias Current: 2pA; Input Offset Voltage: 2.5mV; Iq/Amp: 4.4mA; Small Signal Bandwidth: 220MHz; V Span Max: 5.5V; V Span Min: 2.7V; DatasheetVersion: Rev. D; PackageVersion: 060606-A; PackageReference: R-14; PackageDescription: 14-Pin Standard Small Outline Package, Body 8.65 x 3.9 mm, Pitch 1.27 mm; Supplier 1: Digi-Key; Supplier Part Number 1: ADA4891-3ARZ-R7TR-ND; Supplier 2: Digi-Key; Supplier Part Number 2: ADA4891-3ARZ-R7CT-ND; Supplier 3: Digi-Key; Supplier Part Number 3: ADA4891-3ARZ-R7DKR-ND; Packing: Reel; Slew Rate: 170V/us; Mounting Technology: Surface Mount; Code_JEDEC: MS-012-AB; ComponentLink1Description: Manufacturer URL; ComponentLink1URL: http://www.analog.com/en/index.html; ComponentLink2Description: Datasheet; ComponentLink2URL: http://www.analog.com/static/imported-files/data_sheets/ADA4891-1_4891-2_4891-3_4891-4.PDF; ComponentLink3Description: Package Specification; ComponentLink3URL: http://www.analog.com/static/imported-files/packages/PKG_PDF/SOIC_Narrow%20(R)/R_14.pdf
footprint ADI-R-14_N (SOIC, 14-Leads, Body 8.65x3.9mm, Pitch 1.27mm, IPC Medium Density)
footprint ADI-R-14_L (SOIC, 14-Leads, Body 8.65x3.9mm, Pitch 1.27mm, IPC High Density)
footprint ADI-R-14_M (SOIC, 14-Leads, Body 8.65x3.9mm, Pitch 1.27mm, IPC Low Density)
pins on every part: 4 +VS (power), 11 -VS (power)
part A pins: 1 ~{PD1} (in), 5 +IN 1 (in), 6 -IN 1 (in), 7 OUT 1 (hiz)
part B pins: 2 ~{PD2} (in), 12 +IN 2 (in), 13 -IN 2 (in), 14 OUT 2 (hiz)
part C pins: 3 ~{PD3} (in), 8 OUT 3 (hiz), 9 -IN 3 (in), 10 +IN 3 (in)

## ADA4891-3ARZ-RL
designator U?
3 Channel Single-Supply Operation Operational Amplifier, 220 MHz BW, 170 V/us SR, Industrial, 14-pin SOIC (R-14), Reel; Generic Part Number: ADA4891-3; Manufacturer: Analog Devices; PartNumber: ADA4891-3ARZ-RL; Amplifiers Per Package: 3; Input Bias Current: 2pA; Input Offset Voltage: 2.5mV; Iq/Amp: 4.4mA; Small Signal Bandwidth: 220MHz; V Span Max: 5.5V; V Span Min: 2.7V; DatasheetVersion: Rev. D; PackageVersion: 060606-A; PackageReference: R-14; PackageDescription: 14-Pin Standard Small Outline Package, Body 8.65 x 3.9 mm, Pitch 1.27 mm; Supplier 1: Digi-Key; Supplier Part Number 1: ADA4891-3ARZ-RL-ND; Packing: Reel; Slew Rate: 170V/us; Mounting Technology: Surface Mount; Code_JEDEC: MS-012-AB; ComponentLink1Description: Manufacturer URL; ComponentLink1URL: http://www.analog.com/en/index.html; ComponentLink2Description: Datasheet; ComponentLink2URL: http://www.analog.com/static/imported-files/data_sheets/ADA4891-1_4891-2_4891-3_4891-4.PDF; ComponentLink3Description: Package Specification; ComponentLink3URL: http://www.analog.com/static/imported-files/packages/PKG_PDF/SOIC_Narrow%20(R)/R_14.pdf
footprint ADI-R-14_N (SOIC, 14-Leads, Body 8.65x3.9mm, Pitch 1.27mm, IPC Medium Density)
footprint ADI-R-14_L (SOIC, 14-Leads, Body 8.65x3.9mm, Pitch 1.27mm, IPC High Density)
footprint ADI-R-14_M (SOIC, 14-Leads, Body 8.65x3.9mm, Pitch 1.27mm, IPC Low Density)
pins on every part: 4 +VS (power), 11 -VS (power)
part A pins: 1 ~{PD1} (in), 5 +IN 1 (in), 6 -IN 1 (in), 7 OUT 1 (hiz)
part B pins: 2 ~{PD2} (in), 12 +IN 2 (in), 13 -IN 2 (in), 14 OUT 2 (hiz)
part C pins: 3 ~{PD3} (in), 8 OUT 3 (hiz), 9 -IN 3 (in), 10 +IN 3 (in)

## ADA4891-4ARUZ
designator U?
Quad Channel Single-Supply Operation Operational Amplifier, 220 MHz BW, 170 V/us SR, Industrial, 14-pin SOP (RU-14), Tube; Generic Part Number: ADA4891-4; Manufacturer: Analog Devices; PartNumber: ADA4891-4ARUZ; Amplifiers Per Package: 4; Input Bias Current: 2pA; Input Offset Voltage: 2.5mV; Iq/Amp: 4.4mA; Small Signal Bandwidth: 220MHz; V Span Max: 5.5V; V Span Min: 2.7V; DatasheetVersion: Rev. D; PackageReference: RU-14; PackageDescription: 14-Pin Thin Shrink Small Outline Package, Body 5 x 4.4 mm, Pitch 0.65 mm; Supplier 1: Digi-Key; Supplier Part Number 1: ADA4891-4ARUZ-ND; Packing: Tube; Slew Rate: 170V/us; Mounting Technology: Surface Mount; Code_JEDEC: MO-153AB-1; ComponentLink1Description: Manufacturer URL; ComponentLink1URL: http://www.analog.com/en/index.html; ComponentLink2Description: Datasheet; ComponentLink2URL: http://www.analog.com/static/imported-files/data_sheets/ADA4891-1_4891-2_4891-3_4891-4.PDF; ComponentLink3Description: Package Specification; ComponentLink3URL: http://www.analog.com/static/imported-files/packages/36057385283879153717235186773RU14.pdf; ComponentLink4Description: Reference Circuit; ComponentLink4URL: http://www.analog.com/en/all-operational-amplifiers-op-amps/operational-amplifiers-op-amps/ada4891-4/products/product.html#product-recommendations
footprint ADI-RU-14_N (SOP, 14-Leads, Body 5x4.4mm, Pitch 0.65mm, IPC Medium Density)
footprint ADI-RU-14_L (SOP, 14-Leads, Body 5x4.4mm, Pitch 0.65mm, IPC High Density)
footprint ADI-RU-14_M (SOP, 14-Leads, Body 5x4.4mm, Pitch 0.65mm, IPC Low Density)
pins on every part: 4 +VS (power), 11 -VS (power)
part A pins: 1 OUT 1 (out), 2 -IN 1 (in), 3 +IN 1 (in)
part B pins: 5 +IN 2 (in), 6 -IN 2 (in), 7 OUT 2 (out)
part C pins: 8 OUT 3 (out), 9 -IN 3 (in), 10 +IN 3 (in)
part D pins: 12 +IN 4 (in), 13 -IN 4 (in), 14 OUT 4 (out)

## ADA4891-4ARUZ-R7
designator U?
Quad Channel Single-Supply Operation Operational Amplifier, 220 MHz BW, 170 V/us SR, Industrial, 14-pin SOP (RU-14), Reel; Generic Part Number: ADA4891-4; Manufacturer: Analog Devices; PartNumber: ADA4891-4ARUZ-R7; Amplifiers Per Package: 4; Input Bias Current: 2pA; Input Offset Voltage: 2.5mV; Iq/Amp: 4.4mA; Small Signal Bandwidth: 220MHz; V Span Max: 5.5V; V Span Min: 2.7V; DatasheetVersion: Rev. D; PackageReference: RU-14; PackageDescription: 14-Pin Thin Shrink Small Outline Package, Body 5 x 4.4 mm, Pitch 0.65 mm; Supplier 1: Digi-Key; Supplier Part Number 1: ADA4891-4ARUZ-R7-ND; Packing: Reel; Slew Rate: 170V/us; Mounting Technology: Surface Mount; Code_JEDEC: MO-153AB-1; ComponentLink1Description: Manufacturer URL; ComponentLink1URL: http://www.analog.com/en/index.html; ComponentLink2Description: Datasheet; ComponentLink2URL: http://www.analog.com/static/imported-files/data_sheets/ADA4891-1_4891-2_4891-3_4891-4.PDF; ComponentLink3Description: Package Specification; ComponentLink3URL: http://www.analog.com/static/imported-files/packages/36057385283879153717235186773RU14.pdf; ComponentLink4Description: Reference Circuit; ComponentLink4URL: http://www.analog.com/en/all-operational-amplifiers-op-amps/operational-amplifiers-op-amps/ada4891-4/products/product.html#product-recommendations
footprint ADI-RU-14_N (SOP, 14-Leads, Body 5x4.4mm, Pitch 0.65mm, IPC Medium Density)
footprint ADI-RU-14_L (SOP, 14-Leads, Body 5x4.4mm, Pitch 0.65mm, IPC High Density)
footprint ADI-RU-14_M (SOP, 14-Leads, Body 5x4.4mm, Pitch 0.65mm, IPC Low Density)
pins on every part: 4 +VS (power), 11 -VS (power)
part A pins: 1 OUT 1 (out), 2 -IN 1 (in), 3 +IN 1 (in)
part B pins: 5 +IN 2 (in), 6 -IN 2 (in), 7 OUT 2 (out)
part C pins: 8 OUT 3 (out), 9 -IN 3 (in), 10 +IN 3 (in)
part D pins: 12 +IN 4 (in), 13 -IN 4 (in), 14 OUT 4 (out)

## ADA4891-4ARUZ-RL
designator U?
Quad Channel Single-Supply Operation Operational Amplifier, 220 MHz BW, 170 V/us SR, Industrial, 14-pin SOP (RU-14), Reel; Generic Part Number: ADA4891-4; Manufacturer: Analog Devices; PartNumber: ADA4891-4ARUZ-RL; Amplifiers Per Package: 4; Input Bias Current: 2pA; Input Offset Voltage: 2.5mV; Iq/Amp: 4.4mA; Small Signal Bandwidth: 220MHz; V Span Max: 5.5V; V Span Min: 2.7V; DatasheetVersion: Rev. D; PackageReference: RU-14; PackageDescription: 14-Pin Thin Shrink Small Outline Package, Body 5 x 4.4 mm, Pitch 0.65 mm; Supplier 1: Digi-Key; Supplier Part Number 1: ADA4891-4ARUZ-RL-ND; Packing: Reel; Slew Rate: 170V/us; Mounting Technology: Surface Mount; Code_JEDEC: MO-153AB-1; ComponentLink1Description: Manufacturer URL; ComponentLink1URL: http://www.analog.com/en/index.html; ComponentLink2Description: Datasheet; ComponentLink2URL: http://www.analog.com/static/imported-files/data_sheets/ADA4891-1_4891-2_4891-3_4891-4.PDF; ComponentLink3Description: Package Specification; ComponentLink3URL: http://www.analog.com/static/imported-files/packages/36057385283879153717235186773RU14.pdf; ComponentLink4Description: Reference Circuit; ComponentLink4URL: http://www.analog.com/en/all-operational-amplifiers-op-amps/operational-amplifiers-op-amps/ada4891-4/products/product.html#product-recommendations
footprint ADI-RU-14_N (SOP, 14-Leads, Body 5x4.4mm, Pitch 0.65mm, IPC Medium Density)
footprint ADI-RU-14_L (SOP, 14-Leads, Body 5x4.4mm, Pitch 0.65mm, IPC High Density)
footprint ADI-RU-14_M (SOP, 14-Leads, Body 5x4.4mm, Pitch 0.65mm, IPC Low Density)
pins on every part: 4 +VS (power), 11 -VS (power)
part A pins: 1 OUT 1 (out), 2 -IN 1 (in), 3 +IN 1 (in)
part B pins: 5 +IN 2 (in), 6 -IN 2 (in), 7 OUT 2 (out)
part C pins: 8 OUT 3 (out), 9 -IN 3 (in), 10 +IN 3 (in)
part D pins: 12 +IN 4 (in), 13 -IN 4 (in), 14 OUT 4 (out)

## ADA4891-4ARZ
designator U?
Quad Channel Single-Supply Operation Operational Amplifier, 220 MHz BW, 170 V/us SR, Industrial, 14-pin SOIC (R-14), Tube; Generic Part Number: ADA4891-4; Manufacturer: Analog Devices; PartNumber: ADA4891-4ARZ; Amplifiers Per Package: 4; Input Bias Current: 2pA; Input Offset Voltage: 2.5mV; Iq/Amp: 4.4mA; Small Signal Bandwidth: 220MHz; V Span Max: 5.5V; V Span Min: 2.7V; DatasheetVersion: Rev. D; PackageVersion: 060606-A; PackageReference: R-14; PackageDescription: 14-Pin Standard Small Outline Package, Body 8.65 x 3.9 mm, Pitch 1.27 mm; Supplier 1: Digi-Key; Supplier Part Number 1: ADA4891-4ARZ-ND; Packing: Tube; Slew Rate: 170V/us; Mounting Technology: Surface Mount; Code_JEDEC: MS-012-AB; ComponentLink1Description: Manufacturer URL; ComponentLink1URL: http://www.analog.com/en/index.html; ComponentLink2Description: Datasheet; ComponentLink2URL: http://www.analog.com/static/imported-files/data_sheets/ADA4891-1_4891-2_4891-3_4891-4.PDF; ComponentLink3Description: Package Specification; ComponentLink3URL: http://www.analog.com/static/imported-files/packages/PKG_PDF/SOIC_Narrow%20(R)/R_14.pdf; ComponentLink4Description: Reference Circuit; ComponentLink4URL: http://www.analog.com/en/all-operational-amplifiers-op-amps/operational-amplifiers-op-amps/ada4891-4/products/product.html#product-recommendations
footprint ADI-R-14_N (SOIC, 14-Leads, Body 8.65x3.9mm, Pitch 1.27mm, IPC Medium Density)
footprint ADI-R-14_L (SOIC, 14-Leads, Body 8.65x3.9mm, Pitch 1.27mm, IPC High Density)
footprint ADI-R-14_M (SOIC, 14-Leads, Body 8.65x3.9mm, Pitch 1.27mm, IPC Low Density)
pins on every part: 4 +VS (power), 11 -VS (power)
part A pins: 1 OUT 1 (out), 2 -IN 1 (in), 3 +IN 1 (in)
part B pins: 5 +IN 2 (in), 6 -IN 2 (in), 7 OUT 2 (out)
part C pins: 8 OUT 3 (out), 9 -IN 3 (in), 10 +IN 3 (in)
part D pins: 12 +IN 4 (in), 13 -IN 4 (in), 14 OUT 4 (out)

## ADA4891-4ARZ-R7
designator U?
Quad Channel Single-Supply Operation Operational Amplifier, 220 MHz BW, 170 V/us SR, Industrial, 14-pin SOIC (R-14), Reel; Generic Part Number: ADA4891-4; Manufacturer: Analog Devices; PartNumber: ADA4891-4ARZ-R7; Amplifiers Per Package: 4; Input Bias Current: 2pA; Input Offset Voltage: 2.5mV; Iq/Amp: 4.4mA; Small Signal Bandwidth: 220MHz; V Span Max: 5.5V; V Span Min: 2.7V; DatasheetVersion: Rev. D; PackageVersion: 060606-A; PackageReference: R-14; PackageDescription: 14-Pin Standard Small Outline Package, Body 8.65 x 3.9 mm, Pitch 1.27 mm; Supplier 1: Digi-Key; Supplier Part Number 1: ADA4891-4ARZ-R7TR-ND; Supplier 2: Digi-Key; Supplier Part Number 2: ADA4891-4ARZ-R7CT-ND; Supplier 3: Digi-Key; Supplier Part Number 3: ADA4891-4ARZ-R7DKR-ND; Packing: Reel; Slew Rate: 170V/us; Mounting Technology: Surface Mount; Code_JEDEC: MS-012-AB; ComponentLink1Description: Manufacturer URL; ComponentLink1URL: http://www.analog.com/en/index.html; ComponentLink2Description: Datasheet; ComponentLink2URL: http://www.analog.com/static/imported-files/data_sheets/ADA4891-1_4891-2_4891-3_4891-4.PDF; ComponentLink3Description: Package Specification; ComponentLink3URL: http://www.analog.com/static/imported-files/packages/PKG_PDF/SOIC_Narrow%20(R)/R_14.pdf; ComponentLink4Description: Reference Circuit; ComponentLink4URL: http://www.analog.com/en/all-operational-amplifiers-op-amps/operational-amplifiers-op-amps/ada4891-4/products/product.html#product-recommendations
footprint ADI-R-14_N (SOIC, 14-Leads, Body 8.65x3.9mm, Pitch 1.27mm, IPC Medium Density)
footprint ADI-R-14_L (SOIC, 14-Leads, Body 8.65x3.9mm, Pitch 1.27mm, IPC High Density)
footprint ADI-R-14_M (SOIC, 14-Leads, Body 8.65x3.9mm, Pitch 1.27mm, IPC Low Density)
pins on every part: 4 +VS (power), 11 -VS (power)
part A pins: 1 OUT 1 (out), 2 -IN 1 (in), 3 +IN 1 (in)
part B pins: 5 +IN 2 (in), 6 -IN 2 (in), 7 OUT 2 (out)
part C pins: 8 OUT 3 (out), 9 -IN 3 (in), 10 +IN 3 (in)
part D pins: 12 +IN 4 (in), 13 -IN 4 (in), 14 OUT 4 (out)

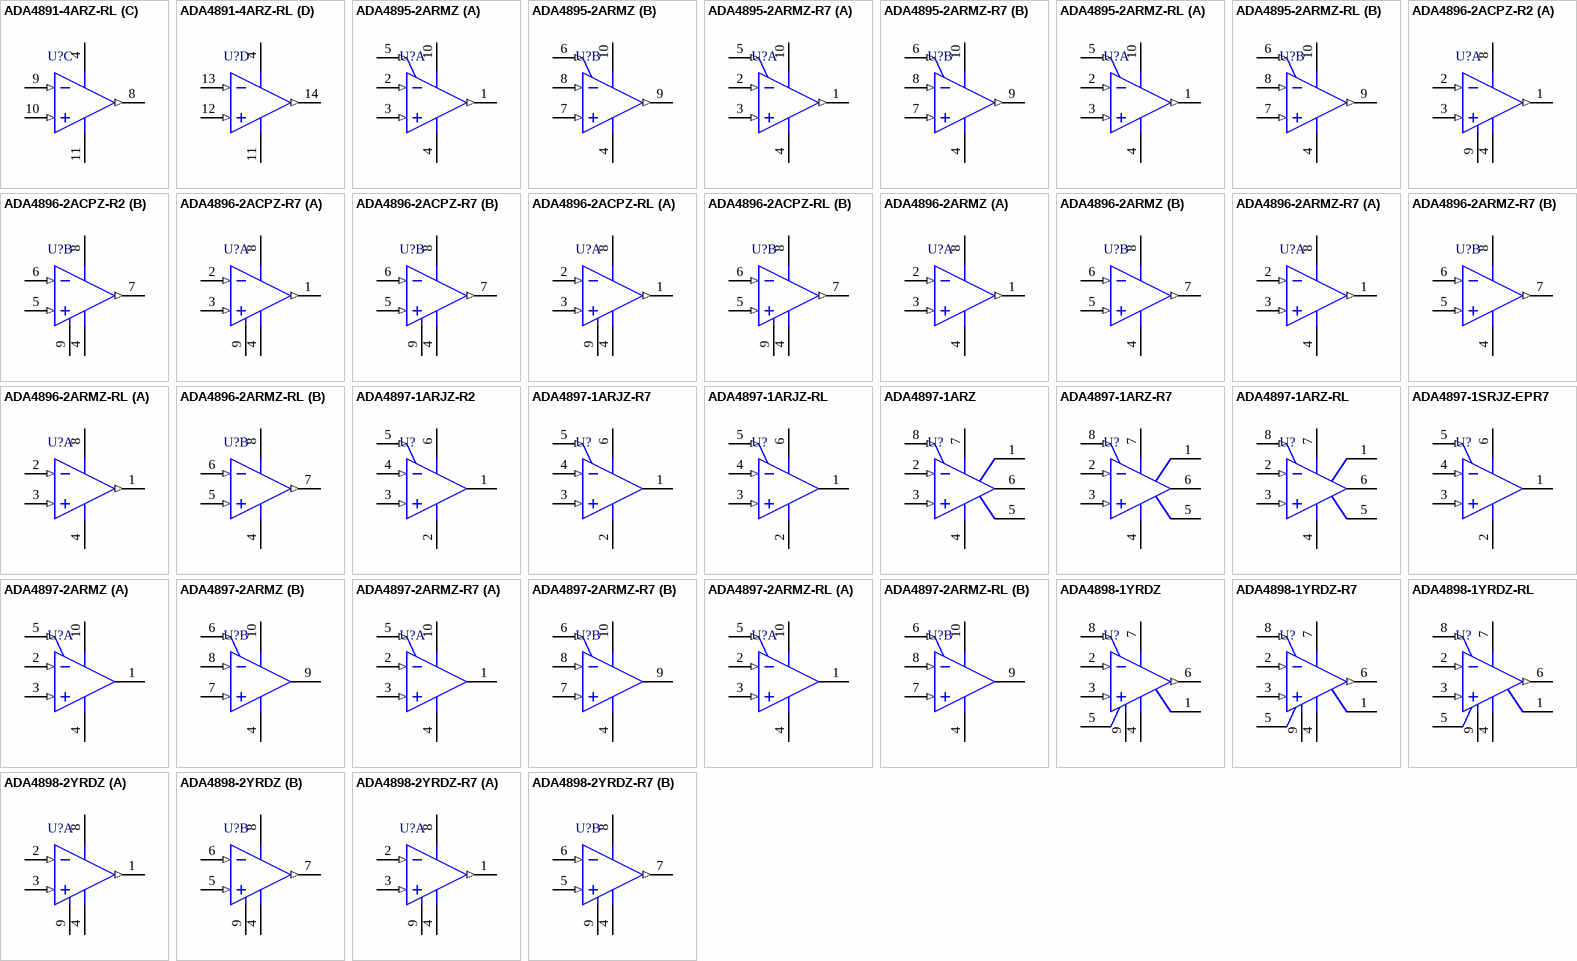
[diagram p88: symbols ADA4891-4ARZ-RL to ADA4898-2YRDZ-R7]

## ADA4891-4ARZ-RL
designator U?
Quad Channel Single-Supply Operation Operational Amplifier, 220 MHz BW, 170 V/us SR, Industrial, 14-pin SOIC (R-14), Reel; Generic Part Number: ADA4891-4; Manufacturer: Analog Devices; PartNumber: ADA4891-4ARZ-RL; Amplifiers Per Package: 4; Input Bias Current: 2pA; Input Offset Voltage: 2.5mV; Iq/Amp: 4.4mA; Small Signal Bandwidth: 220MHz; V Span Max: 5.5V; V Span Min: 2.7V; DatasheetVersion: Rev. D; PackageVersion: 060606-A; PackageReference: R-14; PackageDescription: 14-Pin Standard Small Outline Package, Body 8.65 x 3.9 mm, Pitch 1.27 mm; Supplier 1: Digi-Key; Supplier Part Number 1: ADA4891-4ARZ-RL-ND; Packing: Reel; Slew Rate: 170V/us; Mounting Technology: Surface Mount; Code_JEDEC: MS-012-AB; ComponentLink1Description: Manufacturer URL; ComponentLink1URL: http://www.analog.com/en/index.html; ComponentLink2Description: Datasheet; ComponentLink2URL: http://www.analog.com/static/imported-files/data_sheets/ADA4891-1_4891-2_4891-3_4891-4.PDF; ComponentLink3Description: Package Specification; ComponentLink3URL: http://www.analog.com/static/imported-files/packages/PKG_PDF/SOIC_Narrow%20(R)/R_14.pdf; ComponentLink4Description: Reference Circuit; ComponentLink4URL: http://www.analog.com/en/all-operational-amplifiers-op-amps/operational-amplifiers-op-amps/ada4891-4/products/product.html#product-recommendations
footprint ADI-R-14_N (SOIC, 14-Leads, Body 8.65x3.9mm, Pitch 1.27mm, IPC Medium Density)
footprint ADI-R-14_L (SOIC, 14-Leads, Body 8.65x3.9mm, Pitch 1.27mm, IPC High Density)
footprint ADI-R-14_M (SOIC, 14-Leads, Body 8.65x3.9mm, Pitch 1.27mm, IPC Low Density)
pins on every part: 4 +VS (power), 11 -VS (power)
part A pins: 1 OUT 1 (out), 2 -IN 1 (in), 3 +IN 1 (in)
part B pins: 5 +IN 2 (in), 6 -IN 2 (in), 7 OUT 2 (out)
part C pins: 8 OUT 3 (out), 9 -IN 3 (in), 10 +IN 3 (in)
part D pins: 12 +IN 4 (in), 13 -IN 4 (in), 14 OUT 4 (out)

## ADA4895-2ARMZ
designator U?
Double Channel Low Wide Band Noise Operational Amplifier, 236 MHz BW, 943 V/us SR, Industrial, 10-pin SOP (RM-10), Tray; Generic Part Number: ADA4895-2; Manufacturer: Analog Devices; PartNumber: ADA4895-2ARMZ; Amplifiers Per Package: 2; Input Bias Current: 11uA; Input Offset Voltage: 28uV; Iq/Amp: 3mA; Small Signal Bandwidth: 236MHz; V Span Max: 10V; V Span Min: 3V; DatasheetVersion: Rev. 0; PackageReference: RM-10; PackageDescription: 10-Pin Mini Small Outline Package, Body 3 x 3 mm, Pitch 0.5 mm; Supplier 1: Digi-Key; Supplier Part Number 1: ADA4895-2ARMZ-ND; Supplier 2: Newark; Supplier Part Number 2: 45W7013; Packing: Tray; Slew Rate: 943V/us; Mounting Technology: Surface Mount; Code_JEDEC: MO-187-BA; ComponentLink1Description: Manufacturer URL; ComponentLink1URL: http://www.analog.com/en/index.html; ComponentLink2Description: Datasheet; ComponentLink2URL: http://www.analog.com/static/imported-files/data_sheets/ADA4895-2.PDF; ComponentLink3Description: Package Specification; ComponentLink3URL: http://www.analog.com/static/imported-files/packages/PKG_PDF/MSOP%28RM%29/RM_10.pdf
footprint ADI-RM-10_N (SOP, 10-Leads, Body 3x3mm, Pitch 0.5mm, IPC Medium Density)
footprint ADI-RM-10_L (SOP, 10-Leads, Body 3x3mm, Pitch 0.5mm, IPC High Density)
footprint ADI-RM-10_M (SOP, 10-Leads, Body 3x3mm, Pitch 0.5mm, IPC Low Density)
pins on every part: 4 -VS (power) "Negative Supply.", 10 +VS (power) "Positive Supply."
part A pins: 1 OUT 1 (out) "Output 1.", 2 -IN 1 (in) "Inverting Input 1.", 3 +IN 1 (in) "Noninverting Input 1.", 5 ~{DISABLE1} (in) "Disable 1."
part B pins: 6 ~{DISABLE2} (in) "Disable 2.", 7 +IN 2 (in) "Noninverting Input 2.", 8 -IN 2 (in) "Inverting Input 2.", 9 OUT 2 (out) "Output 2."